# Altium schematic symbol library JDY-40.SchLib: 1 symbol
Pins are listed as number, name and electrical type; pins without a type are passive.

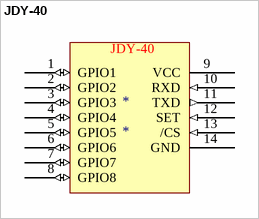
[diagram p0: symbol JDY-40]

## JDY-40
designator *
footprint JDY-401
pins: 1 GPIO1 (io), 2 GPIO2 (io), 3 GPIO3 (io), 4 GPIO4 (io), 5 GPIO5 (io), 6 GPIO6 (io), 7 GPIO7 (io), 8 GPIO8 (io), 9 VCC (power), 10 RXD (in), 11 TXD (out), 12 SET (in), 13 /CS (in), 14 GND (power)